# Altium schematic symbol library Drivers.SchLib: 6 symbols
Pins are listed as number, name and electrical type; pins without a type are passive.

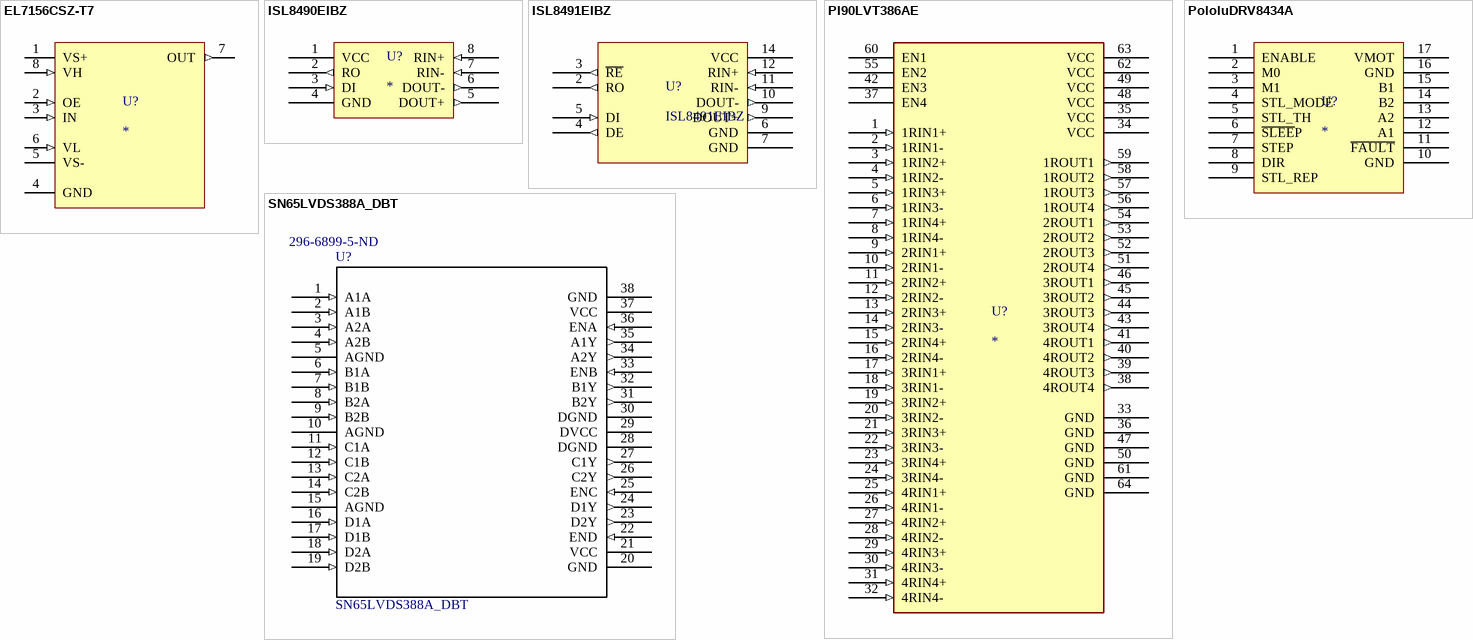
[diagram p0: symbols EL7156CSZ-T7 to SN65LVDS388A_DBT]

## EL7156CSZ-T7
designator U?
High Performance Pin Driver; MF: {'manufacturer': u'Renesas Electronics America Inc'}; MP: EL7156CSZ-T7; Package: None; Price: None; Value: *; Availability: Unavailable
footprint SOIC127P600X175-8N
pins: 1 VS+, 2 OE (in), 3 IN (in), 4 GND, 5 VS-, 6 VL (in), 7 OUT (out), 8 VH (in)

## ISL8490EIBZ
designator U?
RS422 transeiver; Mfr_Name: Renesas / Intersil; RefDes: RefDes; Type: Type
footprint SOIC8_4X5_INR-M
pins: 1 VCC (power), 2 RO (out), 3 DI (in), 4 GND (power), 5 DOUT+ (out), 6 DOUT- (out), 7 RIN- (in), 8 RIN+ (in)

## ISL8491EIBZ
designator U?
RS422 transceiver; Mfr_Name: Renesas / Intersil; RefDes: RefDes; Type: Type
footprint SOIC14_3P9X8P65_INR
pins: 2 RO (out), 3 ~{RE} (out), 4 DE (out), 5 DI (in), 6 GND (power), 7 GND (power), 9 DOUT+ (out), 10 DOUT- (out), 11 RIN- (in), 12 RIN+ (in), 14 VCC (power)

## PI90LVT386AE
designator U?
LVDS 16chan receiver; Mfr_Name: Pericom; RefDes: RefDes; Type: Type
footprint A64_PER
pins: 1 1RIN1+ (in), 2 1RIN1- (in), 3 1RIN2+ (in), 4 1RIN2- (in), 5 1RIN3+ (in), 6 1RIN3- (in), 7 1RIN4+ (in), 8 1RIN4- (in), 9 2RIN1+ (in), 10 2RIN1- (in), 11 2RIN2+ (in), 12 2RIN2- (in), 13 2RIN3+ (in), 14 2RIN3- (in), 15 2RIN4+ (in), 16 2RIN4- (in), 17 3RIN1+ (in), 18 3RIN1- (in), 19 3RIN2+ (in), 20 3RIN2- (in), 21 3RIN3+ (in), 22 3RIN3- (in), 23 3RIN4+ (in), 24 3RIN4- (in), 25 4RIN1+ (in), 26 4RIN1- (in), 27 4RIN2+ (in), 28 4RIN2- (in), 29 4RIN3+ (in), 30 4RIN3- (in), 31 4RIN4+ (in), 32 4RIN4- (in), 33 GND (power), 34 VCC (power), 35 VCC (power), 36 GND (power), 37 EN4, 38 4ROUT4 (out), 39 4ROUT3 (out), 40 4ROUT2 (out), 41 4ROUT1 (out), 42 EN3, 43 3ROUT4 (out), 44 3ROUT3 (out), 45 3ROUT2 (out), 46 3ROUT1 (out), 47 GND (power), 48 VCC (power), 49 VCC (power), 50 GND (power), 51 2ROUT4 (out), 52 2ROUT3 (out), 53 2ROUT2 (out), 54 2ROUT1 (out), 55 EN2, 56 1ROUT4 (out), 57 1ROUT3 (out), 58 1ROUT2 (out), 59 1ROUT1 (out), 60 EN1, 61 GND (power), 62 VCC (power), 63 VCC (power), 64 GND (power)

## PololuDRV8434A
designator U?
footprint Pololu_DRV8483A
pins: 1 ENABLE, 2 M0, 3 M1, 4 STL_MODE, 5 STL_TH, 6 ~{SLEE}P, 7 STEP, 8 DIR, 9 STL_REP, 10 GND, 11 ~{FAULT}, 12 A1, 13 A2, 14 B2, 15 B1, 16 GND, 17 VMOT

## SN65LVDS388A_DBT
designator U?  Supplier Part Number 1: 296-6899-5-ND
Imported; Manufacturer: Texas Instruments; Manufacturer_Part_Number: sn65lvds388a_dbt_38; INDUSTRY_STD_PKG_TYPE: TSSOP; FAMILY_NAME: LVDS PHY (<800MBPS); PIN_COUNT: 38; PACKAGE_DESIGNATOR: DBT; Datasheet URL: http://www.ti.com/lit/gpn/SN65LVDS388A; GENERIC_PART_NUMBER: SN65LVDS388A; Vendor: Texas Instruments; RefDes: RefDes; Type: DEV; Value: Value; digikey: 296-6926-5-ND; Supplier 1: Digi-Key
footprint DBT38
pins: 1 A1A (in), 2 A1B (in), 3 A2A (in), 4 A2B (in), 5 AGND (power), 6 B1A (in), 7 B1B (in), 8 B2A (in), 9 B2B (in), 10 AGND (power), 11 C1A (in), 12 C1B (in), 13 C2A (in), 14 C2B (in), 15 AGND (power), 16 D1A (in), 17 D1B (in), 18 D2A (in), 19 D2B (in), 20 GND (power), 21 VCC (power), 22 END (in), 23 D2Y (out), 24 D1Y (out), 25 ENC (in), 26 C2Y (out), 27 C1Y (out), 28 DGND (power), 29 DVCC (power), 30 DGND (power), 31 B2Y (out), 32 B1Y (out), 33 ENB (in), 34 A2Y (out), 35 A1Y (out), 36 ENA (in), 37 VCC (power), 38 GND (power)